# Altium schematic symbol library U_74HC14.SchLib: 1 symbol
Pins are listed as number, name and electrical type; pins without a type are passive.

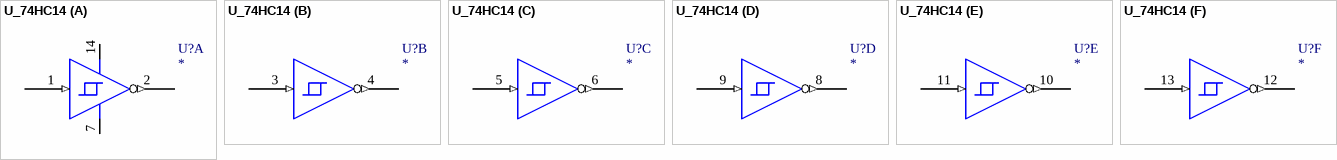
[diagram p0: symbol U_74HC14]

## U_74HC14
designator U?
part A pins: 1 A (in), 2 Y (out), 7 GND_LOGIC (power), 14 +5V (power)
part B pins: 3 A (in), 4 Y (out)
part C pins: 5 A (in), 6 Y (out)
part D pins: 8 Y (out), 9 A (in)
part E pins: 10 Y (out), 11 A (in)
part F pins: 12 Y (out), 13 A (in)